# EAGLE library part 750811630 (library Wurth_Power Magnetics_WE-OLPI)
WE-OLPI Offline Flyback Transformers Characteristics Universal offline input voltage Output power from 2 to 35 W Operating temperature: –40 °C to +125 °C Isolation voltage: up to 5000VAC Applications Offline-switch mode power supplies Especially designed for several ICs from Power Integrations <https://www.we-online.com/components/media/o801423v209%20FAMILY-MID-OLPI.jpg> Details see: www.we-online.com/en/components/products/WE-OLPI <www.we-online.com/catalog/WE-OLPI/?utm_source=eagle_model&utm_medium=description_link&utm_campaign=eisos_eagle> Created by Ella Wu 2024-07-03 2024 (C) Wurth Elektronik
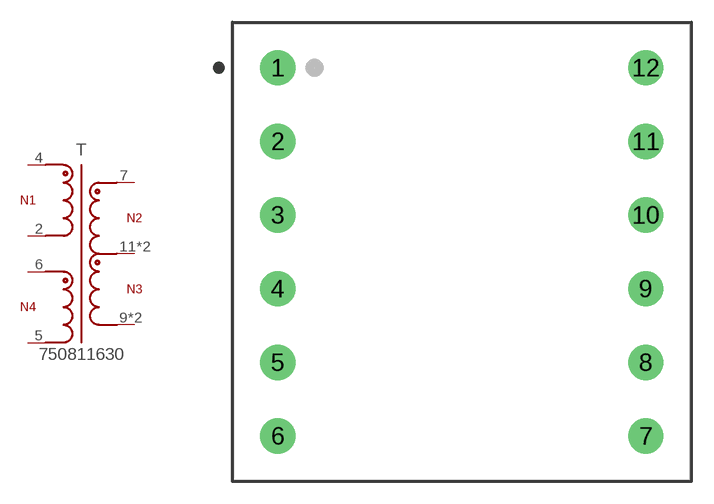
[diagram p2: symbol with the pads of WE-OLPI_ER28/14_L31W31H25; footprint WE-OLPI_ER28/14_L31W31H25]

Designator prefix T

## 750811630 (DATASHEET-URL: https://www.we-online.com/redexpert/spec/750811630?ae; FSWITCH: 66kHz; HEIGHT: 25mm; IOUT1: 2000A; IOUT2: 2.2A; ISAT: 2200V; L: 1.04uH; LENGTH: 31mm; MOUNT: THT; N: 23.33 : 1.33 : 1 : 2.33; PART-NUMBER: 750811630; SIZE: ER28/14; VALUE: 750811630; VAUX: 11.65V; VIN: 85 - 265 V (AC); VOUT1: 12V; VOUT2: 5V; VT: 4500V(AC); WIDTH: 31mm)  [WE-OLPI_ER28/14_L31W31H25]
2  2  pas
4  4  pas
5  5  pas
6  6  pas
7  7  pas
9  9+10  pas
10  9+10  pas
11  11+12  pas
12  11+12  pas

## Footprint WE-OLPI_ER28/14_L31W31H25 (pad centres in mm)
MID-OLPI Offline Flyback Transformers for Power Integrations Size: ER28/14,THT,12pins LXWXH=31X31X25mm
drill 1.6: 1 -12.5,12.5; 2 -12.5,7.5; 3 -12.5,2.5; 4 -12.5,-2.5; 5 -12.5,-7.5; 6 -12.5,-12.5; 7 12.5,-12.5; 8 12.5,-7.5; 9 12.5,-2.5; 10 12.5,2.5; 11 12.5,7.5; 12 12.5,12.5